# Altium footprint library 744325550.PcbLib: 1 footprints
Each footprint in its own frame and in the unit in brackets; x right, y up, seen from the top. Pads: shape width x height; smd on the part's side, far side on the other; paste and mask are expansions set on the pad; w line width, h text height; cw(c..) or ccw(c..) is an arc to the next point about the centre after c.
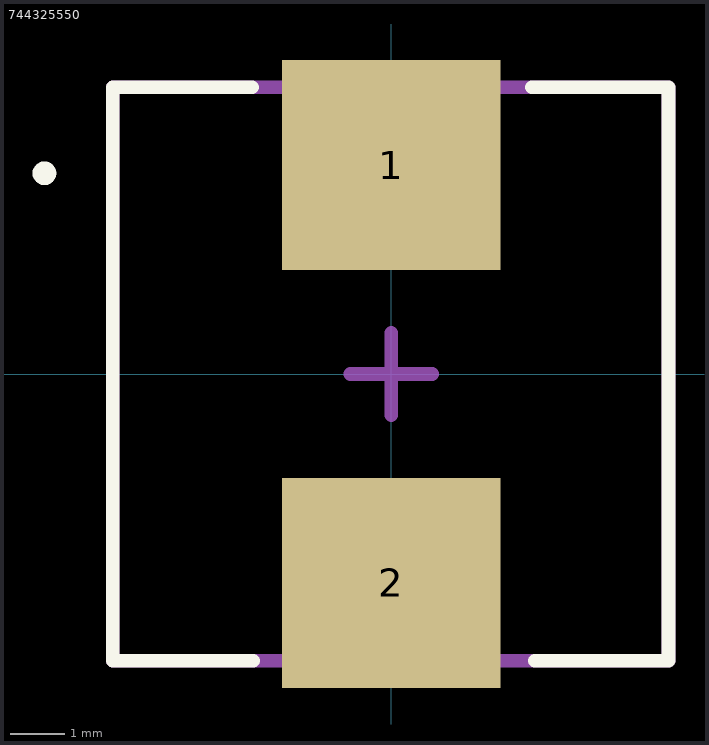
[diagram p0: the footprint, top view; thin cyan lines are the x and y axes]

## 744325550 [mm]
pads (2):
  rect 4x3.85 smd: 1(0,3.825) 2(0,-3.825)
Top Overlay:
  circle w0.254: c-6.35,3.675 r0.09
  lines w0.25: -2.55,5.25 -5.1,5.25 -5.1,-5.25 -2.525,-5.25 ; 2.575,5.25 5.075,5.25 5.075,-5.25 2.625,-5.25
Mechanical 13:
  lines w0.25: -5.1,-5.25 -5.1,5.25 5.075,5.25 5.075,-5.25 -5.1,-5.25
Mechanical 15:
  lines w0.25: -0.75,0 0,0 ; 0,-0.75 0,0 ; 0,0.75 0,0 ; 0.75,0 0,0
3D body: height 4.7, standoff 0, extent -5.1,-5.25 5.1,5.25